# EAGLE library part EEPROM-I2C (library logic-supply)
I2C EEPROM chips, 24LC256 (and others)
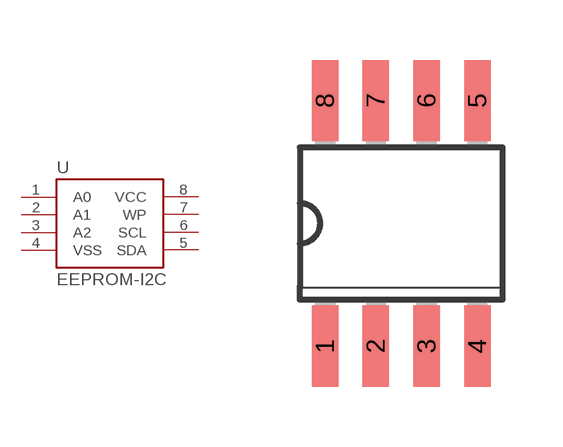
[diagram p7: symbol with the pads of SO08; footprint SO08]

Designator prefix -

## EEPROM-I2CSMD  [SO08]
1  A0
2  A1
3  A2
4  VSS  pwr
5  SDA
6  SCL
7  WP
8  VCC  pwr

## Footprint SO08 (pad centres in mm)
Small Outline Package SOIC 150 mil
smd 0.66 x 2.032: 1 -1.905,-3.073; 2 -0.635,-3.073; 3 0.635,-3.073; 4 1.905,-3.073; 5 1.905,3.073; 6 0.635,3.073; 7 -0.635,3.073; 8 -1.905,3.073